# Altium schematic symbol library SnapEDAsch.SchLib: 1 symbol
Pins are listed as number, name and electrical type; pins without a type are passive.

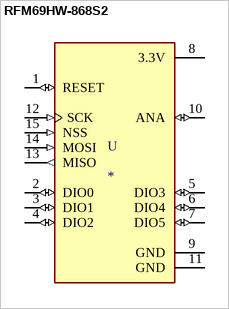
[diagram p0: symbol RFM69HW-868S2]

## RFM69HW-868S2
designator U
General ISM < 1GHz Transceiver Module 868MHz Antenna Not Included Surface Mount; MP: RFM69HW-868S2; MF: RF; Package: SMD-16 RF Solutions; Availability: Unavailable; Value: *; SnapEDA_Link: https://www.snapeda.com/parts/RFM69HW-868S2/RF%20Solutions/view-part/367203/?ref=snap; Price: None
footprint XCVR_RFM69HW-868S2
pins: 1 RESET (io), 2 DIO0 (io), 3 DIO1 (io), 4 DIO2 (io), 5 DIO3 (io), 6 DIO4 (io), 7 DIO5 (io), 8 3.3V (power), 9 GND (power), 10 ANA (io), 11 GND (power), 12 SCK (in), 13 MISO (out), 14 MOSI (in), 15 NSS (in)